# Altium footprint library Резисторные сборки.PcbLib: 2 footprints
Each footprint in its own frame and in the unit in brackets; x right, y up, seen from the top. Pads: shape width x height; smd on the part's side, far side on the other; paste and mask are expansions set on the pad; w line width, h text height; cw(c..) or ccw(c..) is an arc to the next point about the centre after c.
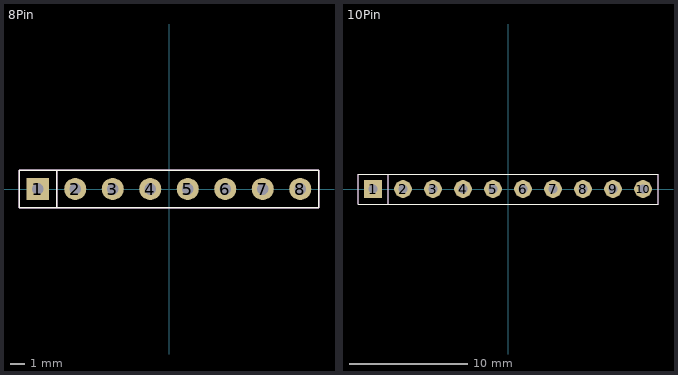
[diagram p0: the footprints below, top view; thin cyan lines are the x and y axes]

## 8Pin [mm]
pads (8):
  rect 1.5x1.5 hole 0.8: 1(-8.89,0)
  round 1.5 hole 0.8: 2(-6.35,0) 3(-3.81,0) 4(-1.27,0) 5(1.27,0) 6(3.81,0) 7(6.35,0) 8(8.89,0)
Top Overlay:
  lines w0.1: -7.62,-1.27 -7.62,1.27 ; -10.16,-1.27 10.16,-1.27 10.16,1.27 -10.16,1.27 -10.16,-1.27
TopAssy:
  lines w0.1: -7.62,1.27 -7.62,-1.27 10.16,-1.27 ; 10.16,-1.27 7.62,-1.27 -10.16,-1.27 -10.16,1.27 10.16,1.27 10.16,-1.27
  text ".Designator" at -3.81,0 h1.52
3D body "HP1-4-8M .stp": height 6.08, standoff -2.5, extent -10.2,-1.23 10.2,1.27

## 10Pin [mm]
pads (10):
  rect 1.5x1.5 hole 0.8: 1(-11.43,0)
  round 1.5 hole 0.8: 2(-8.89,0) 3(-6.35,0) 4(-3.81,0) 5(-1.27,0) 6(1.27,0) 7(3.81,0) 8(6.35,0) 9(8.89,0) 10(11.43,0)
Top Overlay:
  lines w0.1: -10.16,-1.27 -12.7,-1.27 -12.7,1.27 -10.16,1.27 ; -10.16,-1.27 -10.16,1.27 ; -10.16,-1.27 12.7,-1.27 12.7,1.27 -10.16,1.27
TopAssy:
  lines w0.1: -7.62,-1.27 10.16,-1.27 ; -10.16,-1.27 -12.7,-1.27 -12.7,1.27 -10.16,1.27 ; -10.16,-1.27 7.62,-1.27 12.7,-1.27 12.7,1.27 -10.16,1.27 ; -10.16,-1.27 -10.16,1.27
  text ".Designator" at -3.81,0 h1.52
3D body "HP1-4-10M.stp": height 6.08, standoff -2.5, extent -12.7,-1.27 12.7,1.23